# Altium schematic symbol library CX2016DB32000D0WZRC1.SchLib: 1 symbol
Pins are listed as number, name and electrical type; pins without a type are passive.

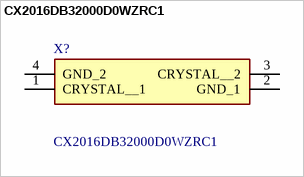
[diagram p0: symbol CX2016DB32000D0WZRC1]

## CX2016DB32000D0WZRC1
designator X?
32 MHz +/-25ppm Crystal 8pF 60 Ohms 4-SMD, No Lead; Manufacturer_Name: Kyocera AVX; Geometry.Height: 0.45mm; Manufacturer_Part_Number: CX2016DB32000D0WZRC1; Mouser Part Number: 581-CX2016DB32DWZRC1; Mouser Price/Stock: https://www.mouser.co.uk/ProductDetail/KYOCERA-AVX/CX2016DB32000D0WZRC1?qs=mHG8nxlouK5LiZGb%2FcBxwg%3D%3D; Arrow Part Number: CX2016DB32000D0WZRC1; Arrow Price/Stock: https://www.arrow.com/en/products/cx2016db32000d0wzrc1/avx?region=nac; Datasheet Link: https://www.digikey.com/en/products/detail/kyocera-avx/CX2016DB32000D0WZRC1/5436842
footprint CX2016DB32000D0WZRC1
pins: 1 CRYSTAL__1, 2 GND_1, 3 CRYSTAL__2, 4 GND_2